# Altium footprint library PcbLib1.PcbLib: 2 footprints
Each footprint in its own frame and in the unit in brackets; x right, y up, seen from the top. Pads: shape width x height; smd on the part's side, far side on the other; paste and mask are expansions set on the pad; w line width, h text height; cw(c..) or ccw(c..) is an arc to the next point about the centre after c.
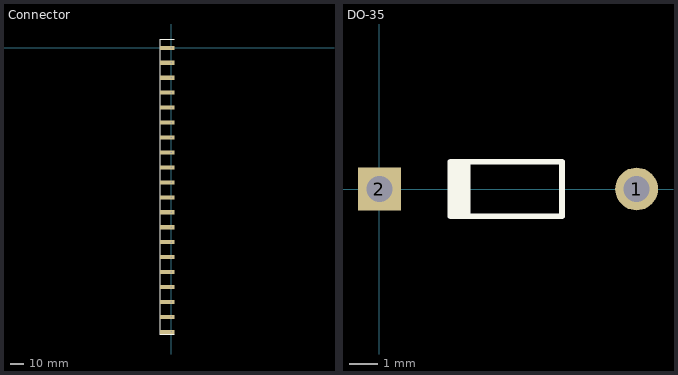
[diagram p0: the footprints below, top view; thin cyan lines are the x and y axes]

## Connector [mm]
pads (20):
  rect 10.5x3 hole 1 copper offset -3,0: 1(0,0) 2(0,-11) 3(0,-22) 4(0,-33) 5(0,-44) 6(0,-55) 7(0,-66) 8(0,-77) 9(0,-88) 10(0,-99) 11(0,-110) 12(0,-121) 13(0,-132) 14(0,-143) 15(0,-154) 16(0,-165) 17(0,-176) 18(0,-187) 19(0,-198) 20(0,-209)
Top Overlay:
  lines w0.254: 2.286,-210.82 -8.509,-210.82 -8.509,6.5 2.286,6.5

## DO-35 [mm]
pads (2):
  round 1.5 hole 0.9: 1(9,0)
  rect 1.5x1.5 hole 0.9: 2(0,0)
Top Overlay:
  region: 3.189,0.95 2.389,0.95 2.389,-0.95 3.189,-0.95
  lines w0.2: 2.489,-0.95 6.389,-0.95 6.389,0.95 2.489,0.95
3D body "SW3dPS-do_35.STEP": height 1.89, standoff -2.29, extent 0.623,-0.875 8.255,0.875